# Altium schematic symbol library Reference_Voltage.SchLib: 259 symbols (part 3 of 3)
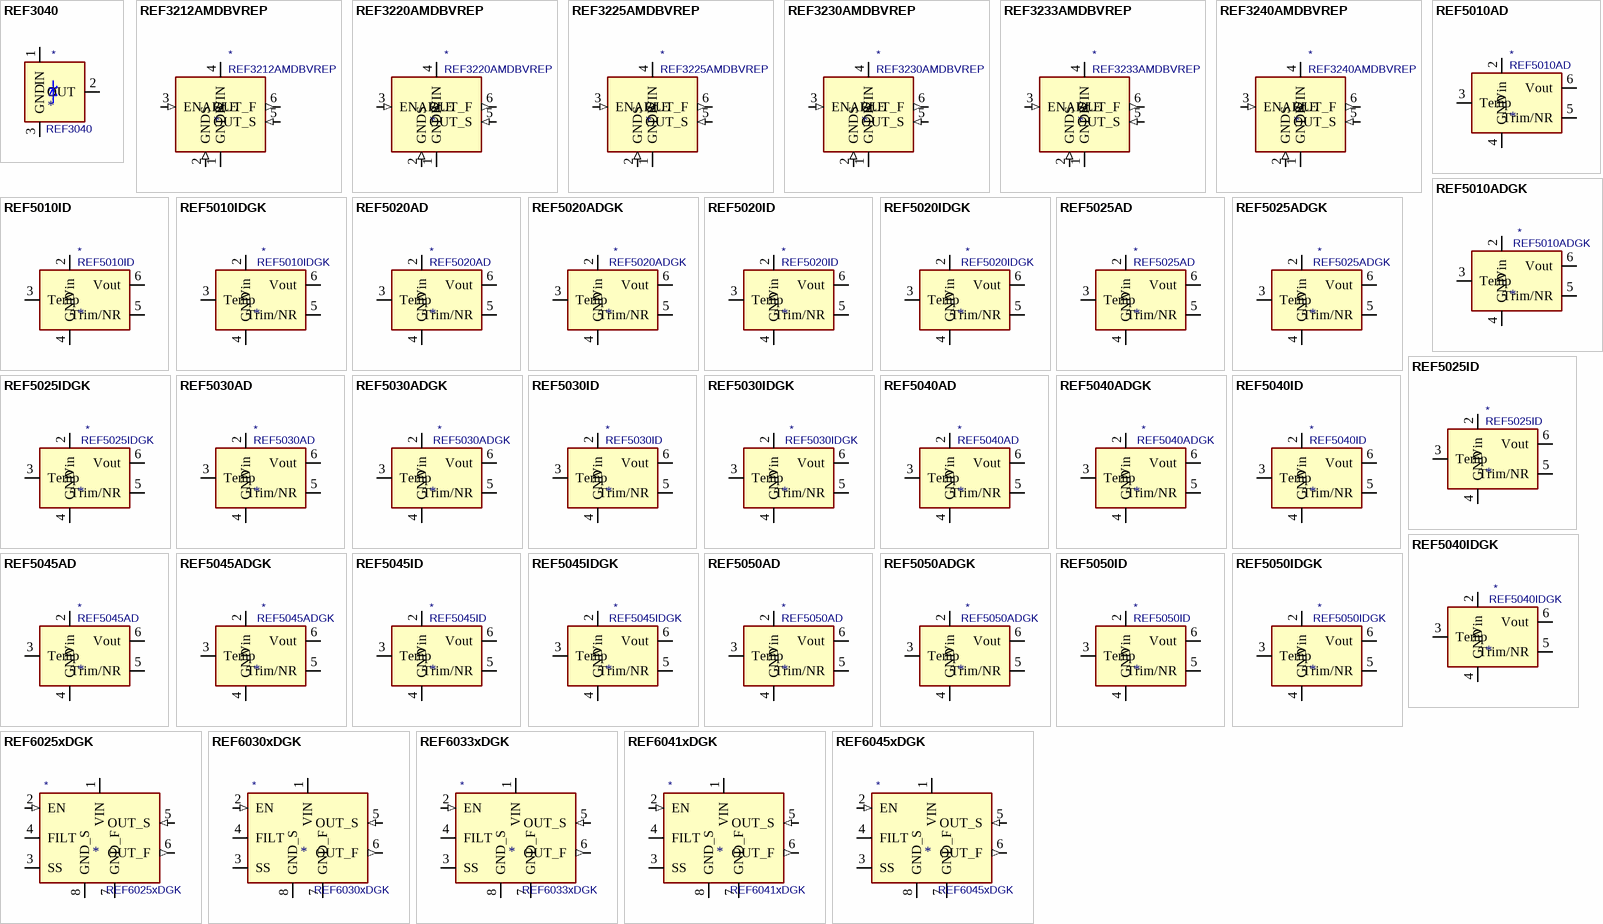
[diagram p8: symbols REF3040 to REF6045xDGK]

## REF5045IDGK
designator *  value REF5045IDGK
ki_keywords: Low Noise Precision Voltage Reference 4.5V; ki_description: 4.5V 0.05% 10mA Low Noise Precision Voltage Reference, MSOP-8; ki_fp_filters: MSOP*3x3mm*P0.65mm*; Footprint: Package_SO:MSOP-8_3x3mm_P0.65mm; Supplier: http://www.ti.com/lit/ds/symlink/ref5030.pdf
footprint MSOP-8_3x3mm_P0.65mm
pins: 1 DNC (in) hidden, 2 Vin (power), 3 Temp, 4 GND (power), 5 Trim/NR, 6 Vout (power), 7 NC (in) hidden, 8 DNC (in) hidden

## REF5050AD
designator *  value REF5050AD
ki_keywords: Low Noise Precision Voltage Reference 5V; ki_description: 5V 0.1% 10mA Low Noise Precision Voltage Reference, SO-8; ki_fp_filters: SOIC*3.9x4.9mm*P1.27mm*; Footprint: Package_SO:SOIC-8_3.9x4.9mm_P1.27mm; Supplier: http://www.ti.com/lit/ds/symlink/ref5030.pdf
footprint SOIC-8_3.9x4.9mm_P1.27mm
pins: 1 DNC (in) hidden, 2 Vin (power), 3 Temp, 4 GND (power), 5 Trim/NR, 6 Vout (power), 7 NC (in) hidden, 8 DNC (in) hidden

## REF5050ADGK
designator *  value REF5050ADGK
ki_keywords: Low Noise Precision Voltage Reference 5V; ki_description: 5V 0.1% 10mA Low Noise Precision Voltage Reference, MSOP-8; ki_fp_filters: MSOP*3x3mm*P0.65mm*; Footprint: Package_SO:MSOP-8_3x3mm_P0.65mm; Supplier: http://www.ti.com/lit/ds/symlink/ref5030.pdf
footprint MSOP-8_3x3mm_P0.65mm
pins: 1 DNC (in) hidden, 2 Vin (power), 3 Temp, 4 GND (power), 5 Trim/NR, 6 Vout (power), 7 NC (in) hidden, 8 DNC (in) hidden

## REF5050ID
designator *  value REF5050ID
ki_keywords: Low Noise Precision Voltage Reference 5V; ki_description: 5V 0.05% 10mA Low Noise Precision Voltage Reference, SO-8; ki_fp_filters: SOIC*3.9x4.9mm*P1.27mm*; Footprint: Package_SO:SOIC-8_3.9x4.9mm_P1.27mm; Supplier: http://www.ti.com/lit/ds/symlink/ref5030.pdf
footprint SOIC-8_3.9x4.9mm_P1.27mm
pins: 1 DNC (in) hidden, 2 Vin (power), 3 Temp, 4 GND (power), 5 Trim/NR, 6 Vout (power), 7 NC (in) hidden, 8 DNC (in) hidden

## REF5050IDGK
designator *  value REF5050IDGK
ki_keywords: Low Noise Precision Voltage Reference 5V; ki_description: 5V 0.05% 10mA Low Noise Precision Voltage Reference, MSOP-8; ki_fp_filters: MSOP*3x3mm*P0.65mm*; Footprint: Package_SO:MSOP-8_3x3mm_P0.65mm; Supplier: http://www.ti.com/lit/ds/symlink/ref5030.pdf
footprint MSOP-8_3x3mm_P0.65mm
pins: 1 DNC (in) hidden, 2 Vin (power), 3 Temp, 4 GND (power), 5 Trim/NR, 6 Vout (power), 7 NC (in) hidden, 8 DNC (in) hidden

## REF6025xDGK
designator *  value REF6025xDGK
ki_keywords: low Noise precision voltage reference; ki_description: 2.5V 0.05% 4mA Extremely Low Noise High Precision Voltage Reference, VSSOP-8; ki_fp_filters: VSSOP*3.0x3.0mm*P0.65mm*; Footprint: Package_SO:VSSOP-8_3.0x3.0mm_P0.65mm; Supplier: https://www.ti.com/lit/ds/symlink/ref6025.pdf
footprint VSSOP-8_3.0x3.0mm_P0.65mm
pins: 1 VIN (power), 2 EN (in), 3 SS, 4 FILT, 5 OUT_S (in), 6 OUT_F (out), 7 GND_F (power), 8 GND_S (power)

## REF6030xDGK
designator *  value REF6030xDGK
ki_keywords: low Noise precision voltage reference; ki_description: 3.0V 0.05% 4mA Extremely Low Noise High Precision Voltage Reference, VSSOP-8; ki_fp_filters: VSSOP*3.0x3.0mm*P0.65mm*; Footprint: Package_SO:VSSOP-8_3.0x3.0mm_P0.65mm; Supplier: https://www.ti.com/lit/ds/symlink/ref6025.pdf
footprint VSSOP-8_3.0x3.0mm_P0.65mm
pins: 1 VIN (power), 2 EN (in), 3 SS, 4 FILT, 5 OUT_S (in), 6 OUT_F (out), 7 GND_F (power), 8 GND_S (power)

## REF6033xDGK
designator *  value REF6033xDGK
ki_keywords: low Noise precision voltage reference; ki_description: 3.3V 0.05% 4mA Extremely Low Noise High Precision Voltage Reference, VSSOP-8; ki_fp_filters: VSSOP*3.0x3.0mm*P0.65mm*; Footprint: Package_SO:VSSOP-8_3.0x3.0mm_P0.65mm; Supplier: https://www.ti.com/lit/ds/symlink/ref6025.pdf
footprint VSSOP-8_3.0x3.0mm_P0.65mm
pins: 1 VIN (power), 2 EN (in), 3 SS, 4 FILT, 5 OUT_S (in), 6 OUT_F (out), 7 GND_F (power), 8 GND_S (power)

## REF6041xDGK
designator *  value REF6041xDGK
ki_keywords: low Noise precision voltage reference; ki_description: 4.1V 0.05% 4mA Extremely Low Noise High Precision Voltage Reference, VSSOP-8; ki_fp_filters: VSSOP*3.0x3.0mm*P0.65mm*; Footprint: Package_SO:VSSOP-8_3.0x3.0mm_P0.65mm; Supplier: https://www.ti.com/lit/ds/symlink/ref6025.pdf
footprint VSSOP-8_3.0x3.0mm_P0.65mm
pins: 1 VIN (power), 2 EN (in), 3 SS, 4 FILT, 5 OUT_S (in), 6 OUT_F (out), 7 GND_F (power), 8 GND_S (power)

## REF6045xDGK
designator *  value REF6045xDGK
ki_keywords: low Noise precision voltage reference; ki_description: 4.5V 0.05% 4mA Extremely Low Noise High Precision Voltage Reference, VSSOP-8; ki_fp_filters: VSSOP*3.0x3.0mm*P0.65mm*; Footprint: Package_SO:VSSOP-8_3.0x3.0mm_P0.65mm; Supplier: https://www.ti.com/lit/ds/symlink/ref6025.pdf
footprint VSSOP-8_3.0x3.0mm_P0.65mm
pins: 1 VIN (power), 2 EN (in), 3 SS, 4 FILT, 5 OUT_S (in), 6 OUT_F (out), 7 GND_F (power), 8 GND_S (power)

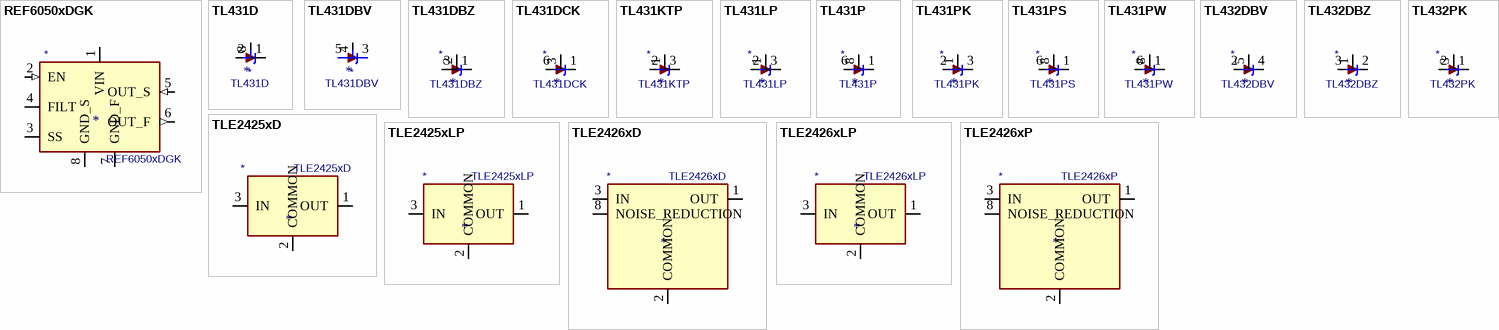
[diagram p6: symbols REF6050xDGK to TLE2426xP]

## REF6050xDGK
designator *  value REF6050xDGK
ki_keywords: low Noise precision voltage reference; ki_description: 5.0V 0.05% 4mA Extremely Low Noise High Precision Voltage Reference, VSSOP-8; ki_fp_filters: VSSOP*3.0x3.0mm*P0.65mm*; Footprint: Package_SO:VSSOP-8_3.0x3.0mm_P0.65mm; Supplier: https://www.ti.com/lit/ds/symlink/ref6025.pdf
footprint VSSOP-8_3.0x3.0mm_P0.65mm
pins: 1 VIN (power), 2 EN (in), 3 SS, 4 FILT, 5 OUT_S (in), 6 OUT_F (out), 7 GND_F (power), 8 GND_S (power)

## TL431D
designator *  value TL431D
ki_keywords: diode device shunt regulator; ki_description: Shunt Regulator, SO-8; ki_fp_filters: SOIC?8*3.9x4.9mm*P1.27mm*; Footprint: Package_SO:SOIC-8_3.9x4.9mm_P1.27mm; Supplier: http://www.ti.com/lit/ds/symlink/tl431.pdf
footprint SOIC-8_3.9x4.9mm_P1.27mm
pins: 1 K, 2 A, 3 A hidden, 6 A hidden, 7 A hidden, 8 REF

## TL431DBV
designator *  value TL431DBV
ki_keywords: diode device shunt regulator; ki_description: Shunt Regulator, SOT-23-5; ki_fp_filters: SOT?23?5*; Footprint: Package_TO_SOT_SMD:SOT-23-5; Supplier: http://www.ti.com/lit/ds/symlink/tl431.pdf
footprint SOT-23-5
pins: 3 K, 4 REF, 5 A

## TL431DBZ
designator *  value TL431DBZ
ki_keywords: diode device shunt regulator; ki_description: Shunt Regulator, SOT-23; ki_fp_filters: SOT?23*; Footprint: Package_TO_SOT_SMD:SOT-23; Supplier: http://www.ti.com/lit/ds/symlink/tl431.pdf
footprint SOT-23
pins: 1 K, 2 REF, 3 A

## TL431DCK
designator *  value TL431DCK
ki_keywords: diode device shunt regulator; ki_description: Shunt Regulator, SC-70; ki_fp_filters: *SC?70*; Footprint: Package_TO_SOT_SMD:SOT-363_SC-70-6; Supplier: http://www.ti.com/lit/ds/symlink/tl431.pdf
footprint SOT-363_SC-70-6
pins: 1 K, 3 REF, 6 A

## TL431KTP
designator *  value TL431KTP
ki_keywords: diode device shunt regulator; ki_description: Shunt Regulator, TO-252; ki_fp_filters: TO*252*; Footprint: Package_TO_SOT_SMD:TO-252-2; Supplier: http://www.jameco.com/Jameco/Products/ProdDS/760499.pdf
footprint TO-252-2
pins: 1 REF, 2 A, 3 K

## TL431LP
designator *  value TL431LP
ki_keywords: diode device regulator shunt; ki_description: Shunt Regulator, TO-92; ki_fp_filters: TO*92*; Footprint: Package_TO_SOT_THT:TO-92_Inline; Supplier: http://www.ti.com/lit/ds/symlink/tl431.pdf
footprint TO-92_Inline
pins: 1 REF, 2 A, 3 K

## TL431P
designator *  value TL431P
ki_keywords: diode device shunt regulator; ki_description: Shunt Regulator, PDIP-8; ki_fp_filters: DIP*W7.62mm*; Footprint: Package_DIP:DIP-8_W7.62mm; Supplier: http://www.ti.com/lit/ds/symlink/tl431.pdf
footprint DIP-8_W7.62mm
pins: 1 K, 6 A, 8 REF

## TL431PK
designator *  value TL431PK
ki_keywords: diode device shunt regulator; ki_description: Shunt Regulator, SOT-89; ki_fp_filters: SOT*89*; Footprint: Package_TO_SOT_SMD:SOT-89-3; Supplier: http://www.ti.com/lit/ds/symlink/tl431.pdf
footprint SOT-89-3
pins: 1 REF, 2 A, 3 K

## TL431PS
designator *  value TL431PS
ki_keywords: diode device shunt regulator; ki_description: Shunt Regulator, MSOP-8; ki_fp_filters: MSOP*3x3mm*P0.65mm*; Footprint: Package_SO:MSOP-8_3x3mm_P0.65mm; Supplier: http://www.ti.com/lit/ds/symlink/tl431.pdf
footprint MSOP-8_3x3mm_P0.65mm
pins: 1 K, 6 A, 8 REF

## TL431PW
designator *  value TL431PW
ki_keywords: diode device shunt regulator; ki_description: Shunt Regulator, TSSOP-8; ki_fp_filters: TSSOP*3x3mm*P0.65mm*; Footprint: Package_SO:TSSOP-8_3x3mm_P0.65mm; Supplier: http://www.ti.com/lit/ds/symlink/tl431.pdf
footprint TSSOP-8_3x3mm_P0.65mm
pins: 1 K, 6 A, 8 REF

## TL432DBV
designator *  value TL432DBV
ki_keywords: diode device shunt regulator; ki_description: Shunt Regulator, SOT-23-5; ki_fp_filters: SOT?23?5*; Footprint: Package_TO_SOT_SMD:SOT-23-5; Supplier: http://www.ti.com/lit/ds/symlink/tl431.pdf
footprint SOT-23-5
pins: 2 A, 4 K, 5 REF

## TL432DBZ
designator *  value TL432DBZ
ki_keywords: diode device shunt regulator; ki_description: Shunt Regulator, SOT-23; ki_fp_filters: SOT?23*; Footprint: Package_TO_SOT_SMD:SOT-23; Supplier: http://www.ti.com/lit/ds/symlink/tl431.pdf
footprint SOT-23
pins: 1 REF, 2 K, 3 A

## TL432PK
designator *  value TL432PK
ki_keywords: diode device shunt regulator; ki_description: Shunt Regulator, SOT-89; ki_fp_filters: SOT*89*; Footprint: Package_TO_SOT_SMD:SOT-89-3; Supplier: http://www.ti.com/lit/ds/symlink/tl431.pdf
footprint SOT-89-3
pins: 1 K, 2 A, 3 REF

## TLE2425xD
designator *  value TLE2425xD
ki_keywords: Rail splitter precision virtual ground 2.5V; ki_description: Precision virtual ground, 2.5V output, SOIC-8; ki_fp_filters: SOIC*3.9x4.9mm*P1.27mm*; Footprint: Package_SO:SOIC-8_3.9x4.9mm_P1.27mm; Supplier: http://www.ti.com/lit/ds/symlink/tle2425.pdf
footprint SOIC-8_3.9x4.9mm_P1.27mm
pins: 1 OUT (power), 2 COMMON (power), 3 IN (power), 4 NC (in) hidden, 5 NC (in) hidden, 6 NC (in) hidden, 7 NC (in) hidden, 8 NC (in) hidden

## TLE2425xLP
designator *  value TLE2425xLP
ki_keywords: Rail splitter precision virtual ground 2.5V; ki_description: Precision virtual ground, 2.5V output, TO-92; ki_fp_filters: TO?92*; Supplier: http://www.ti.com/lit/ds/symlink/tle2425.pdf
pins: 1 OUT (power), 2 COMMON (power), 3 IN (power)

## TLE2426xD
designator *  value TLE2426xD
ki_keywords: Rail splitter precision virtual ground; ki_description: Precision virtual ground, noise reduction pin, 4V to 40V input, SOIC-8; ki_fp_filters: SOIC*3.9x4.9mm*P1.27mm*; Footprint: Package_SO:SOIC-8_3.9x4.9mm_P1.27mm; Supplier: http://www.ti.com/lit/ds/symlink/tle2426.pdf
footprint SOIC-8_3.9x4.9mm_P1.27mm
pins: 1 OUT (power), 2 COMMON (power), 3 IN (power), 4 NC (in) hidden, 5 NC (in) hidden, 6 NC (in) hidden, 7 NC (in) hidden, 8 NOISE_REDUCTION

## TLE2426xLP
designator *  value TLE2426xLP
ki_keywords: Rail splitter precision virtual ground; ki_description: Precision virtual ground, 4V to 40V input, TO-92; ki_fp_filters: TO?92*; Supplier: http://www.ti.com/lit/ds/symlink/tle2426.pdf
pins: 1 OUT (power), 2 COMMON (power), 3 IN (power)

## TLE2426xP
designator *  value TLE2426xP
ki_keywords: Rail splitter precision vitrual ground; ki_description: Precision virtual ground, noise reduction pin, 4V to 40V input, DIP-8; ki_fp_filters: DIP*W7.62mm*; Footprint: Package_DIP:DIP-8_W7.62mm; Supplier: http://www.ti.com/lit/ds/symlink/tle2426.pdf
footprint DIP-8_W7.62mm
pins: 1 OUT (power), 2 COMMON (power), 3 IN (power), 4 NC (in) hidden, 5 NC (in) hidden, 6 NC (in) hidden, 7 NC (in) hidden, 8 NOISE_REDUCTION